# EAGLE library part 27C4096 (library sj_ic)
27C4096 4 Mbit (256 Kbit x 16) EPROM
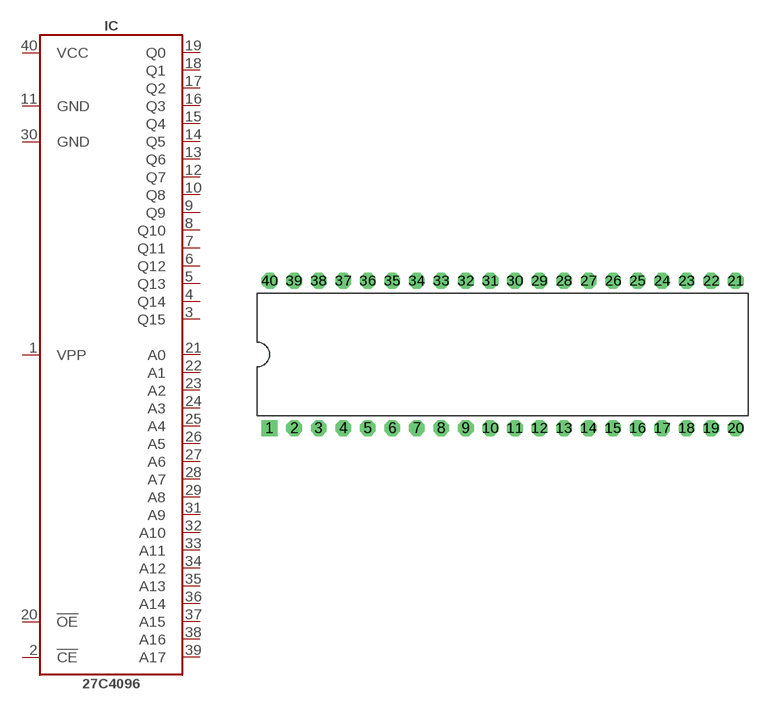
[diagram p9: symbol with the pads of DIP40; footprint DIP40]

Designator prefix IC

## 27C4096_DIP  [DIP40]
1  VPP  pwr
2  !CE
3  Q15
4  Q14
5  Q13
6  Q12
7  Q11
8  Q10
9  Q9
10  Q8
11  GND  pwr
12  Q7
13  Q6
14  Q5
15  Q4
16  Q3
17  Q2
18  Q1
19  Q0
20  !OE
21  A0
22  A1
23  A2
24  A3
25  A4
26  A5
27  A6
28  A7
29  A8
30  GND  pwr
31  A9
32  A10
33  A11
34  A12
35  A13
36  A14
37  A15
38  A16
39  A17
40  VCC  pwr

## Footprint DIP40 (pad centres in mm)
40pin Dual In Line Package Wide (0.6 inch)
drill 0.813 pad 1.626 square: 1 -24.13,-7.62
drill 0.813 pad 1.626 octagon: 2 -21.59,-7.62; 3 -19.05,-7.62; 4 -16.51,-7.62; 5 -13.97,-7.62; 6 -11.43,-7.62; 7 -8.89,-7.62; 8 -6.35,-7.62; 9 -3.81,-7.62; 10 -1.27,-7.62; 11 1.27,-7.62; 12 3.81,-7.62; 13 6.35,-7.62; 14 8.89,-7.62; 15 11.43,-7.62; 16 13.97,-7.62; 17 16.51,-7.62; 18 19.05,-7.62; 19 21.59,-7.62; 20 24.13,-7.62; 21 24.13,7.62; 22 21.59,7.62; 23 19.05,7.62; 24 16.51,7.62; 25 13.97,7.62; 26 11.43,7.62; 27 8.89,7.62; 28 6.35,7.62; 29 3.81,7.62; 30 1.27,7.62; 31 -1.27,7.62; 32 -3.81,7.62; 33 -6.35,7.62; 34 -8.89,7.62; 35 -11.43,7.62; 36 -13.97,7.62; 37 -16.51,7.62; 38 -19.05,7.62; 39 -21.59,7.62; 40 -24.13,7.62